# Altium footprint library DFN 8 3x3.PcbLib: 1 footprints
Each footprint in its own frame and in the unit in brackets; x right, y up, seen from the top. Pads: shape width x height; smd on the part's side, far side on the other; paste and mask are expansions set on the pad; w line width, h text height; cw(c..) or ccw(c..) is an arc to the next point about the centre after c.
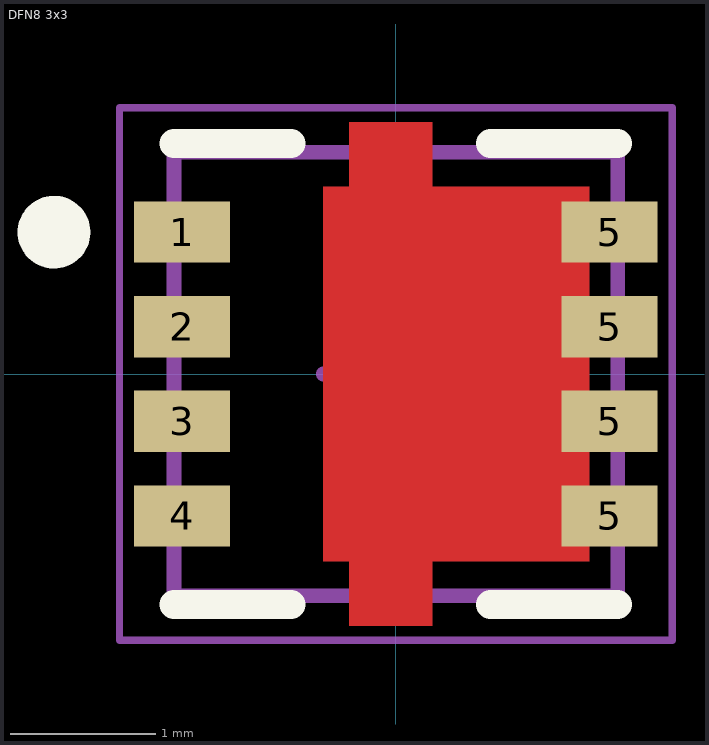
[diagram p0: the footprint, top view; thin cyan lines are the x and y axes]

## DFN8 3x3 [mm]
pads (8):
  rect 0.66x0.42 smd paste+0 mask+0.102: 1(-1.47,0.975) 2(-1.47,0.325) 3(-1.47,-0.325) 4(-1.47,-0.975) 5(1.47,-0.975) 5(1.47,-0.325) 5(1.47,0.325) 5(1.47,0.975)
Signal:
  region: 1.33,-1.289 -0.5,-1.289 -0.5,1.286 1.33,1.286
  region: 0.25,1.185 -0.32,1.185 -0.32,1.73 0.25,1.73
  region: 0.25,-1.73 -0.32,-1.73 -0.32,-1.185 0.25,-1.185
Top Overlay:
  circle w0.25: c-2.35,0.975 r0.125
  lines w0.2: -1.525,-1.585 -0.72,-1.585 ; -1.525,1.585 -0.72,1.585 ; 0.65,-1.585 1.525,-1.585 ; 0.65,1.585 1.525,1.585
Assembly Top:
  lines w0.1: -0.5,0 0.5,0 ; 0,-0.5 0,0.5 ; -1.525,-1.525 -1.525,1.525 1.525,1.525 1.525,-1.525 -1.525,-1.525
Top Courtyard:
  lines w0.05: -1.9,-1.83 1.9,-1.83 1.9,1.83 -1.9,1.83 -1.9,-1.83
3D body "step_temp.STEP": height 0.8, standoff 0, extent -1.65,-1.65 1.65,1.65